# EAGLE library part JTAG-ARM (library perspection)
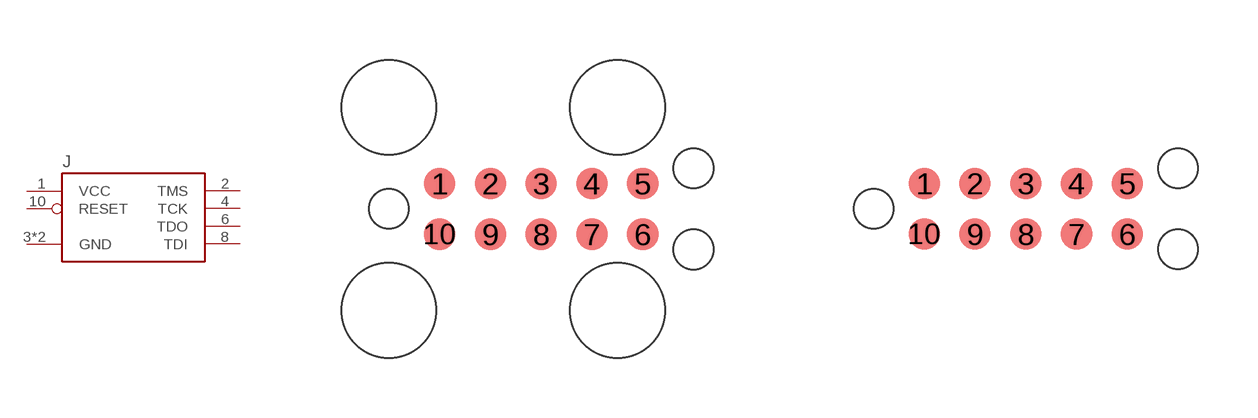
[diagram p10: symbol with the pads of TC2050-IDC; footprints TC2050-IDC, TC2050-IDC-NL]

Designator prefix J

## JTAG-ARM_TC-10  [TC2050-IDC]
1  VCC
2  TMS
3  GND
4  TCK
6  TDO
8  TDI
9  GND
10  RESET

## JTAG-ARM_TC-10-NL  [TC2050-IDC-NL]
Pads as for TC2050-IDC

## Footprint TC2050-IDC (pad centres in mm)
smd 0.787 x 0.787: 1 1.27,0.635; 2 2.54,0.635; 3 3.81,0.635; 4 5.08,0.635; 5 6.35,0.635; 6 6.35,-0.635; 7 5.08,-0.635; 8 3.81,-0.635; 9 2.54,-0.635; 10 1.27,-0.635
hole 0.991 at 7.62,1.016
hole 0.991 at 7.62,-1.016
hole 0.991 at 0,0
hole 2.375 at 0,2.54
hole 2.375 at 0,-2.54
hole 2.375 at 5.715,2.54
hole 2.375 at 5.715,-2.54

## Footprint TC2050-IDC-NL (pad centres in mm)
smd 0.787 x 0.787: 1 1.27,0.635; 2 2.54,0.635; 3 3.81,0.635; 4 5.08,0.635; 5 6.35,0.635; 6 6.35,-0.635; 7 5.08,-0.635; 8 3.81,-0.635; 9 2.54,-0.635; 10 1.27,-0.635
hole 0.991 at 7.62,1.016
hole 0.991 at 7.62,-1.016
hole 0.991 at 0,0